# Altium footprint library INDM350X320X200L70X120N.PcbLib: 1 footprints
Each footprint in its own frame and in the unit in brackets; x right, y up, seen from the top. Pads: shape width x height; smd on the part's side, far side on the other; paste and mask are expansions set on the pad; w line width, h text height; cw(c..) or ccw(c..) is an arc to the next point about the centre after c.
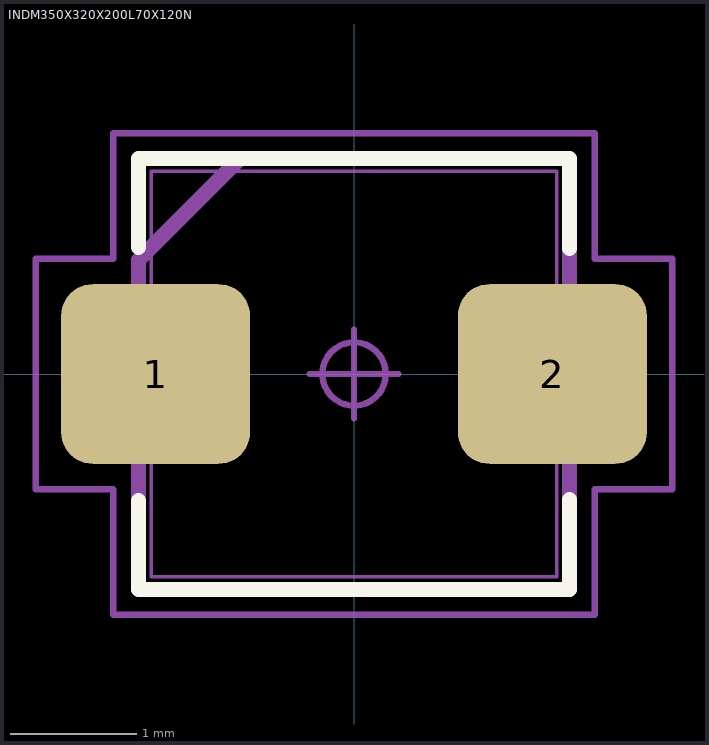
[diagram p0: the footprint, top view; thin cyan lines are the x and y axes]

## INDM350X320X200L70X120N [mm] "Inductor, Molded Body; 3.20 mm L X 3.20 mm W X 2.00 mm H body"
height 2
pads (2):
  rrect35% 1.49x1.42 smd: 1(-1.565,0) 2(1.565,0)
Top Overlay:
  lines w0.12: -1.7,-1 -1.7,-1.7 1.7,-1.7 1.7,-0.99 ; -1.7,1 -1.7,1.7 1.7,1.7 1.7,0.99
Mechanical 3:
  lines w0.12: -1.7,-1.7 -1.7,0.9 -0.9,1.7 1.7,1.7 1.7,-1.7 -1.7,-1.7
Mechanical 5:
  lines w0.025: -1.75,-0.6 -1.75,0.6 -1.05,0.6 -1.05,-0.6 -1.75,-0.6 ; -1.6,-1.6 1.6,-1.6 1.6,1.6 -1.6,1.6 -1.6,-1.6 ; 1.05,-0.6 1.75,-0.6 1.75,0.6 1.05,0.6 1.05,-0.6
Mechanical 7:
  circle w0.05: c0,0 r0.25
  lines w0.05: -0.35,0 0.35,0 ; 0,-0.35 0,0.35 ; -2.51,-0.91 -1.9,-0.91 -1.9,-1.9 1.9,-1.9 1.9,-0.91 2.51,-0.91 2.51,0.91 1.9,0.91 1.9,1.9 -1.9,1.9 -1.9,0.91 -2.51,0.91 -2.51,-0.91
Mechanical 9:
  text "'.Designator'" at -5.08,-0.554 h1
3D body "INDM350X320X200L70X120.STEP": height 2, standoff 0, extent -1.75,-1.6 1.75,1.6
3D body: height 1.04, standoff 0, extent -2.51,-1.9 2.51,1.9